# Altium schematic symbol library Crystals.SchLib: 10 symbols
Pins are listed as number, name and electrical type; pins without a type are passive.

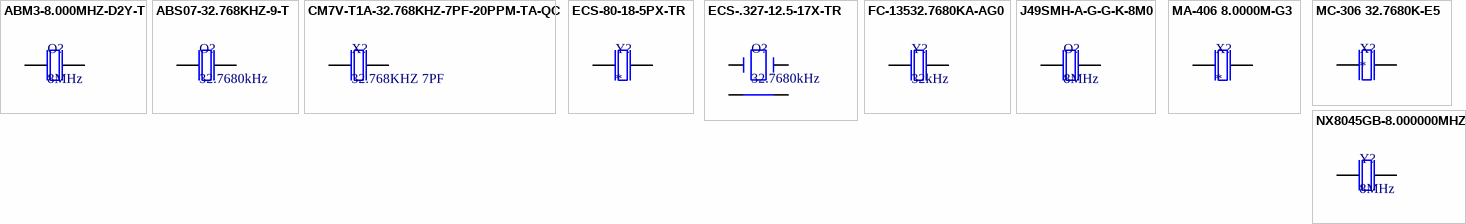
[diagram p0: symbols ABM3-8.000MHZ-D2Y-T to NX8045GB-8.000000MHZ]

## ABM3-8.000MHZ-D2Y-T
designator O?, comment 8MHz
ABRACON - ABM3-8.000MHZ-D2Y-T - CRYSTAL, 8MHZ, 18PF, SMD
footprint ABM3-8.000MHZ-D2Y-T (8MHz ±20ppm Crystal 18pF 140 Ohms 2-SMD, No Lead)
pins: 1, 2

## ABS07-32.768KHZ-9-T
designator O?, comment 32.7680kHz
CRYSTAL 32.7680KHZ 9PF SMD
footprint ABS07-32.768KHZ-9-T (32.768kHz ±20ppm Crystal 9pF 70 kOhms 2-SMD, No Lead)
pins: 1, 2

## CM7V-T1A-32.768KHZ-7PF-20PPM-TA-QC
designator X?, comment 32.768KHZ 7PF
Crystal 32.768KHZ 7.0PF SMD; Manufacturer: Micro Crystal; Manufacturer Part Number: CM7V-T1A-32.768KHZ-6PF-20PPM-TA-QC; Supplier 1: Digi-Key; RoHS: No; Stock 1: 4983; Pricing 1: 1=0.41000, 10=0.34100, 50=0.30700, 100=0.27280, 500=0.25916 (USD); Supplier Part Number 1: 2195-CM7V-T1A-32.768KHZ-6PF-20PPM-TA-QCCT-ND
footprint CM7V-T1A
pins: 1, 2

## ECS-80-18-5PX-TR
designator Y?
CRYSTAL 8.0000MHZ 18PF SMD; Manufacturer 1: ECS International; Manufacturer Part Number 1: ECS-80-18-5PX-TR; Frequency: 8MHz; Tolerance: 30ppm; ESR (Equivalent Series Resistance): 60R; Frequency Stability: 50ppm; Supplier 1: Digi-Key; Stock 1: 7934; Pricing 1: 1=0.25000, 10=0.21000, 50=0.18860, 100=0.16760, 500=0.15926 (USD); RoHS: Yes; Mount: Surface Mount; Min Operating Temperature: -10°C; Max Operating Temperature: 70°C; Package Quantity: 1000; Load Capacitance: 18pF; Packaging: Tape and Reel; Frequency Tolerance: 30ppm; Termination: SMD/SMT; Length: 0.449inch; Height: 0.169inch; Width: 4.8mm; Lead Free: Lead Free; ComponentLink1URL: https://datasheet.ciiva.com/852/csm-7x-852380.pdf?src-supplier=Digi-Key; ComponentLink1Description: https://datasheet.ciiva.com/852/csm-7x-852380.pdf?src-supplier=Digi-Key; ComponentLink2URL: https://datasheet.ciiva.com/852/csm-7x-852381.pdf?src-supplier=Digi-Key; ComponentLink2Description: https://datasheet.ciiva.com/852/csm-7x-852381.pdf?src-supplier=Digi-Key; ComponentLink3URL: https://datasheet.ciiva.com/852/csm-7x-852382.pdf?src-supplier=Digi-Key; ComponentLink3Description: https://datasheet.ciiva.com/852/csm-7x-852382.pdf?src-supplier=Digi-Key; Supplier Part Number 1: XC1271CT-ND
footprint CRYSTAL 8.0000MHZ 18PF SMD
pins: 1, 2

## ECS-.327-12.5-17X-TR
designator O?, comment 32.7680kHz
ECS-.327-12.5-17X-TR - 32.768kHz ±20ppm Crystal 12.5pF 50 kOhms 4-SOJ, 5.50mm pitch
footprint 4-SOJ
pins: 1, 2, 3, 4

## FC-13532.7680KA-AG0
designator Y?, comment 32kHz
Crystals 32.768KHz 20ppm 7.0pF -40C +85C; Manufacturer: Epson; Manufacturer Part Number: FC-13532.7680KA-AG0; Load Capacitance: 7pF; ESR (Equivalent Series Resistance): 65kR; Capacitance: 7E-12F; Supplier 1: Mouser; Supplier Part Number 1: 732-FC135-32.76KAAG0; RoHS: No; Category: Uncategorized; Weight: 0.000564oz; Min Operating Temperature: -40°C; Max Operating Temperature: 85°C; Frequency: 32.768kHz; Packaging: Tape and Reel; Tolerance: 20ppm; Package Quantity: 1000; Termination: SMD/SMT; Frequency Stability: 20ppm; Length: 3.2mm; Height: 0.8mm; Width: 1.5mm; ComponentLink1URL: http://www.mouser.com/ds/2/137/1699449-465441.pdf?src-supplier=Mouser; ComponentLink1Description: http://www.mouser.com/ds/2/137/1699449-465441.pdf?src-supplier=Mouser
footprint FC-135 32.7680KA-AG
pins: 1, 2

## J49SMH-A-G-G-K-8M0
designator O?, comment 8MHz
J49SMH-A-G-G-K-8M0 - 8MHz ±30ppm Crystal 12pF 50 Ohms HC-49/US
footprint HC-49/US
pins: 1, 2

## MA-406 8.0000M-G3
designator X?
CRYSTAL 8.00 MHZ 20.0 PF SMD; Frequency: 32.768kHz; Load Capacitance: 12.5pF; ESR (Equivalent Series Resistance): 65kR; Frequency Tolerance: 20ppm; RoHS: Yes; Mount: Surface Mount; Case/Package: SMD/SMT; Min Operating Temperature: -40°C; Max Operating Temperature: 85°C; Packaging: Tape and Reel; Length: 0.276inch; Height: 0.055inch; Width: 0.06inch; ComponentLink1Description: https://www.digikey.ca/en/products/detail/epson/MA-406-8-0000M-G3-ROHS/5260050; ComponentLink1URL: https://www.digikey.ca/en/products/detail/epson/MA-406-8-0000M-G3-ROHS/5260050; Supplier 1: Digi-Key; Supplier Part Number 1: SER4286CT-ND
footprint MA-406 8.0000M-G3
pins: 1, 4

## MC-306 32.7680K-E5
designator X?
CRYSTAL 32.7680 KHZ 6.0PF SMD; ESR (Equivalent Series Resistance): 65kR; Frequency: 32.768kHz; Load Capacitance: 9pF; Tolerance: 20ppm; RoHS: Yes; Mount: Surface Mount; Case/Package: SMD/SMT; Number of Pins: 4; Weight: 0.002116oz; Min Operating Temperature: -40°C; Max Operating Temperature: 85°C; Packaging: Tape and Reel; Package Quantity: 1000; Termination: SMD/SMT; Frequency Stability: 20ppm; Frequency Tolerance: 20ppm; Length: 6.7mm; Height: 0.055inch; Width: 0.06inch; Depth: 1.5mm; ComponentLink1Description: https://www.digikey.com/product-detail/en/epson/MC-306-32.7680K-E5-ROHS/SER4099CT-ND/6132719; ComponentLink1URL: https://www.digikey.com/product-detail/en/epson/MC-306-32.7680K-E5-ROHS/SER4099CT-ND/6132719; Supplier 1: Digi-Key; Supplier Part Number 1: MC-306 32.7680K-E5: ROHS-ND
footprint MC-306 32.7680K-E5 (CRYSTAL 32.7680 KHZ 6.0PF SMD)
pins: 1, 4

## NX8045GB-8.000000MHZ
designator Y?, comment 8MHz
CRYSTAL 8.0000MHZ 8PF SMD; Manufacturer: NDK; Manufacturer Part Number: NX8045GB-8.000000MHZ; ESR (Equivalent Series Resistance): 200R; Frequency Stability: 50ppm; Supplier 1: Digi-Key; Supplier Part Number 1: 644-1018-1-ND; RoHS: Yes; Category: Crystals; Stock 1: 116457; Mount: Surface Mount; Case/Package: SMD/SMT; Number of Pins: 2; Min Operating Temperature: -10°C; Max Operating Temperature: 70°C; Packaging: Tape and Reel; Package Quantity: 1000; Frequency: 8MHz; Load Capacitance: 8pF; Frequency Tolerance: 50ppm; Length: 0.315inch; Height: 0.079inch; Width: 0.177inch; Lead Free: Exempt; ComponentLink1URL: https://datasheet.ciiva.com/856/nx8045gb-856752.pdf?src-supplier=Digi-Key; ComponentLink1Description: https://datasheet.ciiva.com/856/nx8045gb-856752.pdf?src-supplier=Digi-Key; ComponentLink2URL: https://datasheet.ciiva.com/856/nx8045gb-856753.pdf?src-supplier=Digi-Key; ComponentLink2Description: https://datasheet.ciiva.com/856/nx8045gb-856753.pdf?src-supplier=Digi-Key; ComponentLink3URL: https://datasheet.ciiva.com/856/nx8045gb-856754.pdf?src-supplier=Digi-Key; ComponentLink3Description: https://datasheet.ciiva.com/856/nx8045gb-856754.pdf?src-supplier=Digi-Key
footprint NX8045GB-8.000000MHZ
pins: 1, 2